# Altium footprint library ds1069_2mvw6x.PcbLib: 1 footprints
Each footprint in its own frame and in the unit in brackets; x right, y up, seen from the top. Pads: shape width x height; smd on the part's side, far side on the other; paste and mask are expansions set on the pad; w line width, h text height; cw(c..) or ccw(c..) is an arc to the next point about the centre after c.
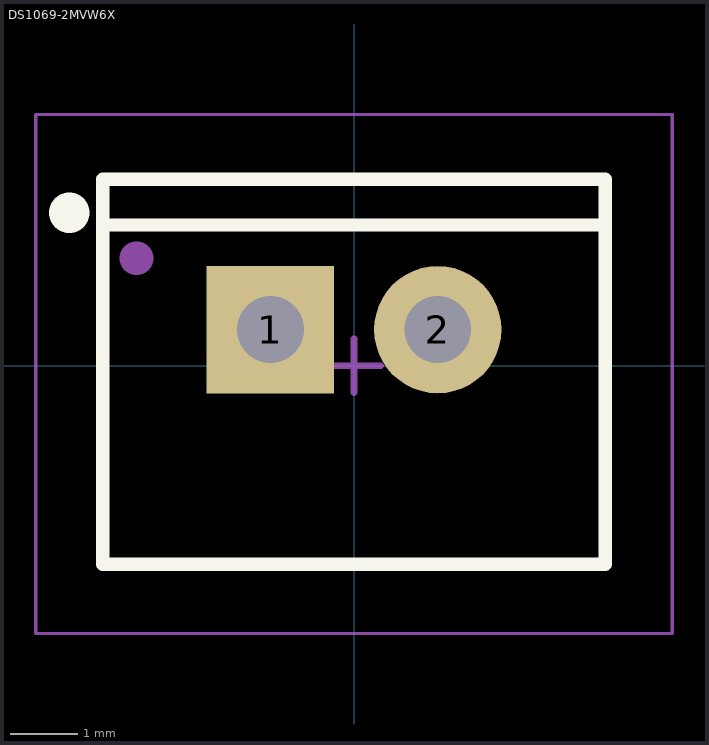
[diagram p0: the footprint, top view; thin cyan lines are the x and y axes]

## DS1069-2MVW6X [mm] "CWF 2 Pins Plug Header, Pitch 2,5mm, V/T Type"
height 7
pads (2):
  rect 1.9x1.9 hole 1: 1(-1.25,0.536)
  round 1.9 hole 1: 2(1.25,0.536)
Top Overlay:
  circle w0.6: c-4.25,2.283 r0.001
  lines w0.2: -3.75,2.1 3.75,2.1 ; -3.75,-2.967 3.75,-2.967 3.75,2.783 -3.75,2.783 -3.75,-2.967
Top Comment:
  text ".Comment" at 1,4 h1.2
Top Designator:
  text ".Designator" at -0.5,4 h1.2
Top Component Outline:
  lines w0.1: -3.75,2.1 3.75,2.1 ; -3.75,-2.967 -3.75,2.783 3.75,2.783 3.75,-2.967 -3.75,-2.967
  lines w0.5: -3.25,1.6 -3.245,1.605
Top Courtyard (Mech15):
  lines w0.05: -4.75,-4 4.75,-4 4.75,3.75 -4.75,3.75 -4.75,-4
  lines w0.1: -0.4,0 0.4,0 ; 0,-0.4 0,0.4
3D body "DS1069-2 (CWF-2).step": height 7, standoff -3.5, extent -3.75,-2.967 3.75,2.783